# Altium schematic symbol library Schlib_Renesas.SchLib: 1 symbol
Pins are listed as number, name and electrical type; pins without a type are passive.

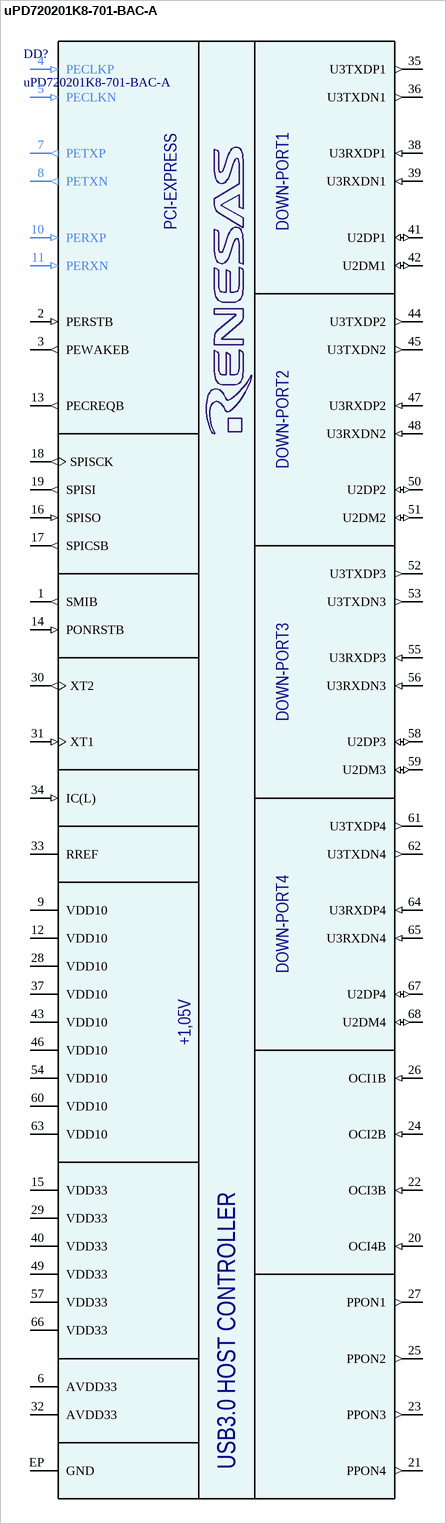
[diagram p0: symbol uPD720201K8-701-BAC-A]

## uPD720201K8-701-BAC-A
designator DD?
USB3.0 HOST CONTROLLER; Manufacturer: Renesas; Part Number: uPD720201K8-701-BAC-A; Package: QFN-68 (8x8mm)
footprint QFN68_uPD720201 (QFN68, 8x8mm with 0.4mm pitch)
pins: 1 SMIB (out), 2 PERSTB (in), 3 PEWAKEB (out), 4 PECLKP (in), 5 PECLKN (in), 6 AVDD33 (power), 7 PETXP (out), 8 PETXN (out), 9 VDD10 (power), 10 PERXP (in), 11 PERXN (in), 12 VDD10 (power), 13 PECREQB (out), 14 PONRSTB (in), 15 VDD33 (power), 16 SPISO (in), 17 SPICSB (out), 18 SPISCK (out), 19 SPISI (out), 20 OCI4B (in), 21 PPON4 (out), 22 OCI3B (in), 23 PPON3 (out), 24 OCI2B (in), 25 PPON2 (out), 26 OCI1B (in), 27 PPON1 (out), 28 VDD10 (power), 29 VDD33 (power), 30 XT2 (out), 31 XT1 (in), 32 AVDD33 (power), 33 RREF, 34 IC(L) (in), 35 U3TXDP1 (out), 36 U3TXDN1 (out), 37 VDD10 (power), 38 U3RXDP1 (in), 39 U3RXDN1 (in), 40 VDD33 (power), 41 U2DP1 (io), 42 U2DM1 (io), 43 VDD10 (power), 44 U3TXDP2 (out), 45 U3TXDN2 (out), 46 VDD10 (power), 47 U3RXDP2 (in), 48 U3RXDN2 (in), 49 VDD33 (power), 50 U2DP2 (io), 51 U2DM2 (io), 52 U3TXDP3 (out), 53 U3TXDN3 (out), 54 VDD10 (power), 55 U3RXDP3 (in), 56 U3RXDN3 (in), 57 VDD33 (power), 58 U2DP3 (io), 59 U2DM3 (io), 60 VDD10 (power), 61 U3TXDP4 (out), 62 U3TXDN4 (out), 63 VDD10 (power), 64 U3RXDP4 (in), 65 U3RXDN4 (in), 66 VDD33 (power), 67 U2DP4 (io), 68 U2DM4 (io), EP GND (power)
text: PCI-EXPRESS; DOWN-PORT1; DOWN-PORT2; DOWN-PORT3; DOWN-PORT4; +1,05V